# EAGLE library part TPS22860DBVR (library texas-custom)
Power Switch ICs - Power Distribution TPS22860 Ultra-low leakage load switch 6-SOT-23 -40 to 85
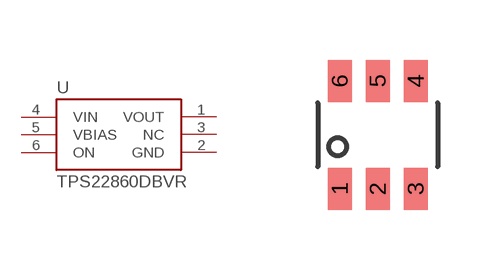
[diagram p5: symbol with the pads of R-PDSO-G6; footprint R-PDSO-G6]

Designator prefix U

## TPS22860DBVR  [R-PDSO-G6]
1  VOUT  pwr
2  GND  pwr
3  NC  nc
4  VIN  pwr
5  VBIAS  pwr
6  ON  in

## Footprint R-PDSO-G6 (pad centres in mm)
smd 0.6 x 1.05: 1 -0.95,-1.35; 2 0,-1.35; 3 0.95,-1.35; 4 0.95,1.35; 5 0,1.35; 6 -0.95,1.35